# Altium footprint library sensata_relay_p126.PcbLib: 3 footprints
Each footprint in its own frame and in the unit in brackets; x right, y up, seen from the top. Pads: shape width x height; smd on the part's side, far side on the other; paste and mask are expansions set on the pad; w line width, h text height; cw(c..) or ccw(c..) is an arc to the next point about the centre after c.
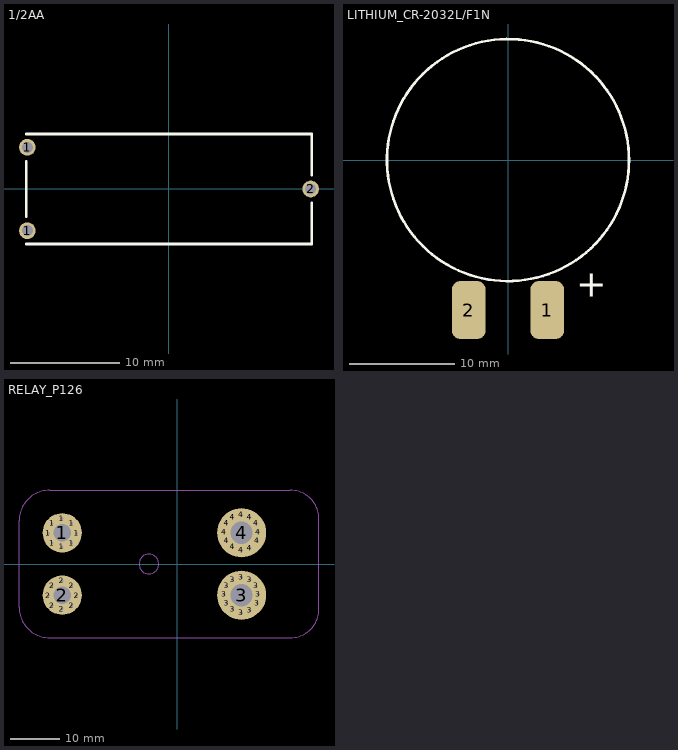
[diagram p0: the footprints below, top view; thin cyan lines are the x and y axes]

## 1/2AA [mm] "1/2AA TH BATTERY"
pads (3):
  round 1.524 hole 1: 1(-12.9,-3.8) 1(-12.9,3.8) 2(12.9,0)
Top Overlay:
  lines w0.254: -13,-5 13,-5 13,-1.25 ; -13,-2.5 -13,2.5 ; -13,5 13,5 13,1.25
3D body: height 8, standoff 0, extent -12.75,-4.75 12.75,4.75

## LITHIUM_CR-2032L/F1N [mm] "BATTERY LITHIUM COIN 3V W/TABS"
pads (2):
  rrect50% 3.2x5.5 smd: 1(3.725,-14.25) 2(-3.725,-14.25)
Top Overlay:
  circle w0.254: c0,0 r11.5
  text "+" at 6.5,-13 h2.54
3D body: height 4, standoff 0, extent -10.048,-9.98 9.873,9.98

## RELAY_P126 [mm]
pads (44):
  round 2 hole 0.6: 1(-26.25,6.25) 1(-25.5,4.25) 1(-25.5,8.25) 1(-23.5,3.5) 1(-23.5,9.25) 1(-21.5,4.25) 1(-21.5,8.25) 1(-20.5,6.25) 2(-26.25,-6.45) 2(-25.5,-8.45) 2(-25.5,-4.45) 2(-23.5,-9.2) 2(-23.5,-3.45) 2(-21.5,-8.45) 2(-21.5,-4.45) 2(-20.5,-6.45) 3(9.5,-6.2) 3(10,-7.95) 3(10,-4.45) 3(11.25,-9.2) 3(11.25,-3.2) 3(13,-9.95) 3(13,-2.7) 3(14.75,-9.45) 3(14.75,-3.2) 3(16,-4.45) 3(16.25,-7.95) 3(16.5,-6.2) 4(9.5,6.5) 4(10,4.75) 4(10,8.25) 4(11.25,3.5) 4(11.25,9.5) 4(13,2.75) 4(13,10) 4(14.75,3.25) 4(14.75,9.5) 4(16,8.25) 4(16.25,4.75) 4(16.5,6.5)
  round 8 hole 3.5: 1(-23.431,6.35) 2(-23.431,-6.35)
  round 10 hole 4.5: 3(13.069,-6.35) 4(13.069,6.35)
Top 3D Body:
  circle w0.254: c-5.8,0 r2
  lines w0.254: -26.005,14.995 23.005,14.995 cw(c23.005,9.185) 28.815,9.185 28.815,-9.185 cw(c23.005,-9.185) 23.005,-14.995 -26,-15 cw(c-26,-8.767) -32.233,-8.767 -32.233,8.767 cw(c-26,8.767) -26,15
Top Designator (Mech17):
  text ".Designator" at -2.21,-0.347 h1.02
3D body "P126.step": height 33.85, standoff -9.28, extent -32.222,-15.006 28.817,15.007